# Altium schematic symbol library decade_box_lib.SchLib: 16 symbols
Pins are listed as number, name and electrical type; pins without a type are passive.

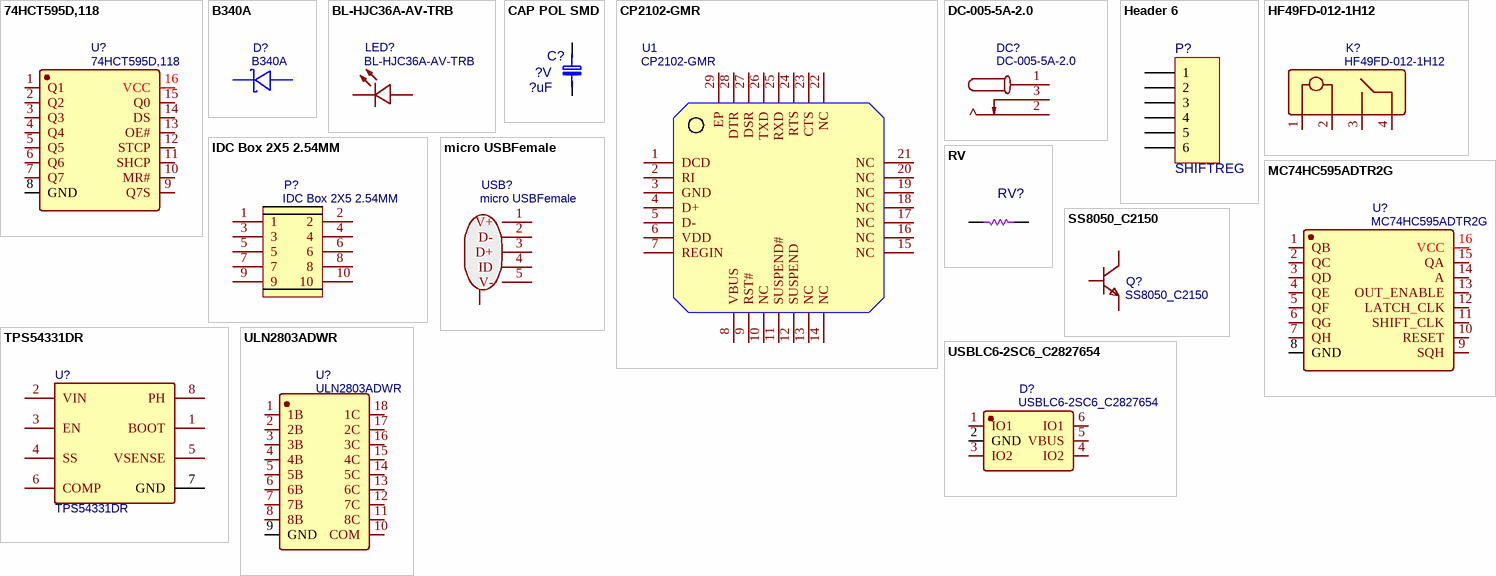
[diagram p0: symbols 74HCT595D,118 to USBLC6-2SC6_C2827654]

## 74HCT595D,118
designator U?
BOM_Manufacturer: Nexperia; Contributor: LCSC; BOM_Supplier: LCSC; BOM_Supplier Part: C282339; BOM_Manufacturer Part: 74HCT595D,118; BOM_JLCPCB Part Class: Extended Part; spicePre: U; spiceSymbolName: 74HCT595D,118
footprint SOIC-16_L9.9-W3.9-P1.27-LS6.0-BL (Footprint not found)
pins: 1 Q1, 2 Q2, 3 Q3, 4 Q4, 5 Q5, 6 Q6, 7 Q7, 8 GND, 9 Q7S, 10 MR#, 11 SHCP, 12 STCP, 13 OE#, 14 DS, 15 Q0, 16 VCC

## B340A
designator D?
BOM_Manufacturer: MDD; BOM_Supplier: LCSC; BOM_Manufacturer Part: B340A; BOM_Supplier Part: C64982; BOM_JLCPCB Part Class: Extended Part; spicePre: D; spiceSymbolName: B340A
footprint SMA_L4.3-W2.6-LS5.2-RD
pins: 1 K, 2 A

## BL-HJC36A-AV-TRB
designator LED?
BOM_Manufacturer: Bright LED Elec; Contributor: LCSC; BOM_Supplier: LCSC; BOM_Supplier Part: C138546; BOM_Manufacturer Part: BL-HJC36A-AV-TRB; BOM_JLCPCB Part Class: Extended Part; spicePre: L; spiceSymbolName: BL-HJC36A-AV-TRB
footprint LED0603-RD_ORANGE (Footprint not found)
pins: 1 K, 2 A

## CAP POL SMD
designator C?, comment Capacitance: ?uF  Voltage Rating: ?V  (hidden comment: 22uF 63V)
CAP ALUM 22UF 20% 25V SMD; Manufacturer: Nichicon; Manufacturer Part Number: UWX1E220MCL1GB; Dielectric Material: Aluminium; Ripple Current: 42mA; Polarity: Polar; Leakage Current: 3uA; Life (Hours): 2000Hour; Dissipation Factor: 0.14%; Supplier 1: Digi-Key; Supplier Part Number 1: 493-2109-1-ND; RoHS: Yes; Category: Aluminum Electrolytic Capacitors; Stock 1: 5009; Pricing 1: 1=0,36000, 10=0,25200, 50=0,17620, 100=0,15110, 500=0,11334 (USD); Mount: Surface Mount; Case/Package: SMD/SMT; Weight: 0.01lb; Contact Plating: Tin; Min Operating Temperature: -40°C; Max Operating Temperature: 85°C; Tolerance: 20%; Package Quantity: 1000; Packaging: Tape and Reel; Ripple Current (AC): 42mA; Voltage Rating (DC): 25V; Termination: SMD/SMT; Voltage: 25V; Series: WX; Construction: Cylindrical; Diameter: 6.3mm; Length: 5.4mm; Width: 0.25inch; Height: 5.4mm; Height - Seated (Max): 0.213inch; Lead Pitch: 2.2mm; Radiation Hardening: No; REACH SVHC: No SVHC; Lead Free: Lead Free; RoHS Compliant: Yes; ComponentLink1URL: https://datasheet.ciiva.com/96/e-wx-96336.pdf?src-supplier=Digi-Key; ComponentLink1Description: https://datasheet.ciiva.com/96/e-wx-96336.pdf?src-supplier=Digi-Key; ComponentLink2URL: https://datasheet.ciiva.com/16352/e-wx-16352999.pdf?src-supplier=Future+Electronics; ComponentLink2Description: https://datasheet.ciiva.com/16352/e-wx-16352999.pdf?src-supplier=Future+Electronics; ComponentLink3URL: https://datasheet.ciiva.com/28640/e-wx-28640455.pdf?src-supplier=Element14; ComponentLink3Description: https://datasheet.ciiva.com/28640/e-wx-28640455.pdf?src-supplier=Element14; ComponentLink4URL: https://datasheet.ciiva.com/17529/e-wx-17529096.pdf?src-supplier=Avnet+Europe; ComponentLink4Description: https://datasheet.ciiva.com/17529/e-wx-17529096.pdf?src-supplier=Avnet+Europe; ComponentLink5URL: https://datasheet.ciiva.com/7851/59577-7851769.pdf?src-supplier=Element14; ComponentLink5Description: https://datasheet.ciiva.com/7851/59577-7851769.pdf?src-supplier=Element14; ComponentLink6URL: https://datasheet.ciiva.com/11687/e-wx-11687963.pdf?src-supplier=Avnet; ComponentLink6Description: https://datasheet.ciiva.com/11687/e-wx-11687963.pdf?src-supplier=Avnet; ComponentLink7URL: https://datasheet.ciiva.com/96/e-wx-96334.pdf?src-supplier=Digi-Key; ComponentLink7Description: https://datasheet.ciiva.com/96/e-wx-96334.pdf?src-supplier=Digi-Key; ComponentLink8URL: https://datasheet.ciiva.com/5361/e-wx-11809-5361166.pdf?src-supplier=Mouser; ComponentLink8Description: https://datasheet.ciiva.com/5361/e-wx-11809-5361166.pdf?src-supplier=Mouser; ComponentLink9URL: https://datasheet.ciiva.com/96/e-wx-96335.pdf?src-supplier=Digi-Key; ComponentLink9Description: https://datasheet.ciiva.com/96/e-wx-96335.pdf?src-supplier=Digi-Key
footprint CAP SMD 6.3X7.7
footprint CAP-SMD_BD6.3-L6.6-W6.6-LS7.2-R-RD
footprint CAP-SMD_BD4.0-L4.3-W4.3-FD
footprint CAP-SMD_BD8.0-L8.3-W8.3-FD
pins: 1, 2

## CP2102-GMR
designator U1
BOM_Manufacturer: SILICON LABS; BOM_Supplier: LCSC; BOM_Manufacturer Part: CP2102-GMR; BOM_Supplier Part: C6568; BOM_JLCPCB Part Class: Basic Part; spicePre: U; spiceSymbolName: CP2102-GMR
footprint WQFN-28_L5.0-W5.0-P0.50-BL-EP3.2
pins: 1 DCD, 2 RI, 3 GND, 4 D+, 5 D-, 6 VDD, 7 REGIN, 8 VBUS, 9 RST#, 10 NC, 11 SUSPEND#, 12 SUSPEND, 13 NC, 14 NC, 15 NC, 16 NC, 17 NC, 18 NC, 19 NC, 20 NC, 21 NC, 22 NC, 23 CTS, 24 RTS, 25 RXD, 26 TXD, 27 DSR, 28 DTR, 29 EP

## DC-005-5A-2.0
designator DC?
BOM_Manufacturer: XKB Enterprise; Contributor: LCSC; BOM_Supplier: LCSC; BOM_Supplier Part: C381116; BOM_Manufacturer Part: DC-005-5A-2.0; BOM_JLCPCB Part Class: Extended Part; spicePre: D; spiceSymbolName: DC-005-5A-2.0
footprint DC-IN-TH_DC-005-5A-2.0 (Footprint not found)
pins: 1, 2, 3

## Header 6
designator P?, comment SHIFTREG
Header, 6-Pin; System: Connector; LatestRevisionDate: 17-Jul-2002; LatestRevisionNote: Re-released for DXP Platform.; Publisher: Altium Limited
footprint HDR1X6 (Connector; Header; 6 Position)
signal-integrity model Connector
pins: 1, 2, 3, 4, 5, 6

## HF49FD-012-1H12
designator K?
BOM_Manufacturer: Xiamen Hongfa Electroacoustic; Contributor: LCSC; BOM_Supplier: LCSC; BOM_Supplier Part: C117488; BOM_Manufacturer Part: HF49FD-012-1H12; BOM_JLCPCB Part Class: Extended Part; spicePre: K; spiceSymbolName: HF49FD-012-1H12
footprint RELAY-TH_HF49FD-0XX-1H12
pins: 1, 2, 3, 4

## IDC Box 2X5 2.54MM
designator P?
BOM_Manufacturer: BOOMELE; BOM_Supplier: LCSC; BOM_Manufacturer Part: IDC Box 2X5 2.54MM; BOM_Supplier Part: C9140; BOM_JLCPCB Part Class: Extended Part; spicePre: P; spiceSymbolName: IDC Box 2X5 2.54MM
footprint IDC-TH_10P-P2.54-H-R2-C5-S2.54
pins: 1, 2, 3, 4, 5, 6, 7, 8, 9, 10

## MC74HC595ADTR2G
designator U?
BOM_Manufacturer: ON; Contributor: LCSC; BOM_Supplier: LCSC; BOM_Manufacturer Part: MC74HC595ADTR2G; BOM_Supplier Part: C100027; BOM_JLCPCB Part Class: Extended Part; spicePre: U; spiceSymbolName: MC74HC595ADTR2G
footprint TSSOP-16_L5.0-W4.4-P0.65-LS6.4-BL
pins: 1 QB, 2 QC, 3 QD, 4 QE, 5 QF, 6 QG, 7 QH, 8 GND, 9 SQH, 10 RESET, 11 SHIFT_CLK, 12 LATCH_CLK, 13 OUT_ENABLE, 14 A, 15 QA, 16 VCC

## micro USBFemale
designator USB?
BOM_Manufacturer: ValuePro; BOM_Supplier: LCSC; BOM_Manufacturer Part: micro USBFemale; BOM_Supplier Part: C10418; BOM_JLCPCB Part Class: Extended Part; spicePre: U; spiceSymbolName: micro USBFemale
footprint MICRO-USB-SMD_5P-P0.65-H-F_C10418
pins: 0 MTN, 1 V+, 2 D-, 3 D+, 4 ID, 5 V-

## RV
designator RV?
Placeholder for resistor; Manufacturer: Panasonic; Manufacturer Part Number: ERJ-U03J104V; Current Rating: 1A; Voltage Rating (DC): 75V; Power Rating: 100mW; Tolerance: 5%; Category: Chip SMD Resistors; Stock 1: 1856; Pricing 1: 1=0,10000, 10=0,07700, 100=0,02950, 1000=0,01298, 2500=0,01121 (USD); Case/Package: 0603; Weight: 7.1E-05oz; Case Code (Imperial): 0603; Case Code (Metric): 1608; Min Operating Temperature: -55°C; Max Operating Temperature: 155°C; Voltage Rating: 75V; Packaging: Tape and Reel; Package Quantity: 5000; Resistor Type: Thick Film; Termination: SMD/SMT; Length: 1.6mm; Width: 0.8mm; Height: 0.45mm; ComponentLink1URL: http://industrial.panasonic.com/www-cgi/jvcr13pz.cgi?E+PZ+3+AOA0005+ERJS06J821V+7+WW?src-supplier=Mouser; ComponentLink1Description: http://industrial.panasonic.com/www-cgi/jvcr13pz.cgi?E+PZ+3+AOA0005+ERJS06J821V+7+WW?src-supplier=Mouser; ComponentLink2URL: http://datasheet.octopart.com/ERJ-U03J104V-Panasonic-datasheet-61627662.pdf?src-supplier=Newark; ComponentLink2Description: http://datasheet.octopart.com/ERJ-U03J104V-Panasonic-datasheet-61627662.pdf?src-supplier=Newark; ComponentLink3URL: http://datasheet.octopart.com/ERJ-U03J104V-Panasonic-datasheet-33006993.pdf?src-supplier=Newark; ComponentLink3Description: http://datasheet.octopart.com/ERJ-U03J104V-Panasonic-datasheet-33006993.pdf?src-supplier=Newark; ComponentLink4URL: http://datasheet.octopart.com/ERJ-U03J104V-Panasonic-datasheet-78375410.pdf; ComponentLink4Description: http://datasheet.octopart.com/ERJ-U03J104V-Panasonic-datasheet-78375410.pdf
footprint RES_PLACEHOLDER
pins: 1, 2

## SS8050_C2150
designator Q?
BOM_Manufacturer: CJ; BOM_Manufacturer Part: SS8050; BOM_Supplier: LCSC; BOM_Supplier Part: C2150; BOM_JLCPCB Part Class: Basic Part; spicePre: Q; spiceSymbolName: SS8050_C2150
footprint SOT-23-3_L2.9-W1.3-P1.90-LS2.4-BR
pins: 1 B, 2 E, 3 C

## TPS54331DR
designator U?
BOM_Manufacturer: TI; BOM_Supplier: LCSC; BOM_Manufacturer Part: TPS54331DR; BOM_Supplier Part: C9865; BOM_JLCPCB Part Class: Basic Part; spicePre: U; spiceSymbolName: TPS54331DR
footprint SOIC-8_L5.0-W4.0-P1.27-LS6.0-BL
pins: 1 BOOT, 2 VIN, 3 EN, 4 SS, 5 VSENSE, 6 COMP, 7 GND, 8 PH

## ULN2803ADWR
designator U?
BOM_Manufacturer: TI; spicePre: X; BOM_Supplier: LCSC; BOM_Manufacturer Part: ULN2803ADWR; BOM_Supplier Part: C9683; BOM_JLCPCB Part Class: Basic Part; spiceSymbolName: ULN2803ADWR
footprint SOIC-18_L11.6-W7.5-P1.27-LS10.3-BL
pins: 1 1B, 2 2B, 3 3B, 4 4B, 5 5B, 6 6B, 7 7B, 8 8B, 9 GND, 10 COM, 11 8C, 12 7C, 13 6C, 14 5C, 15 4C, 16 3C, 17 2C, 18 1C

## USBLC6-2SC6_C2827654
designator D?
BOM_Manufacturer: TECH PUBLIC(台舟电子); Contributor: LCSC; BOM_Supplier: LCSC; BOM_Supplier Part: C2827654; BOM_Manufacturer Part: USBLC6-2SC6; BOM_JLCPCB Part Class: Extended Part; spicePre: D; spiceSymbolName: USBLC6-2SC6_C2827654
footprint SOT-23-6_L2.9-W1.6-P0.95-LS2.8-BL
pins: 1 IO1, 2 GND, 3 IO2, 4 IO2, 5 VBUS, 6 IO1